# EAGLE library part MC68681 (library 68komputer)
MC68681 Dual UART Datasheet <https://www.nxp.com/docs/en/data-sheet/SCC68681.pdf>
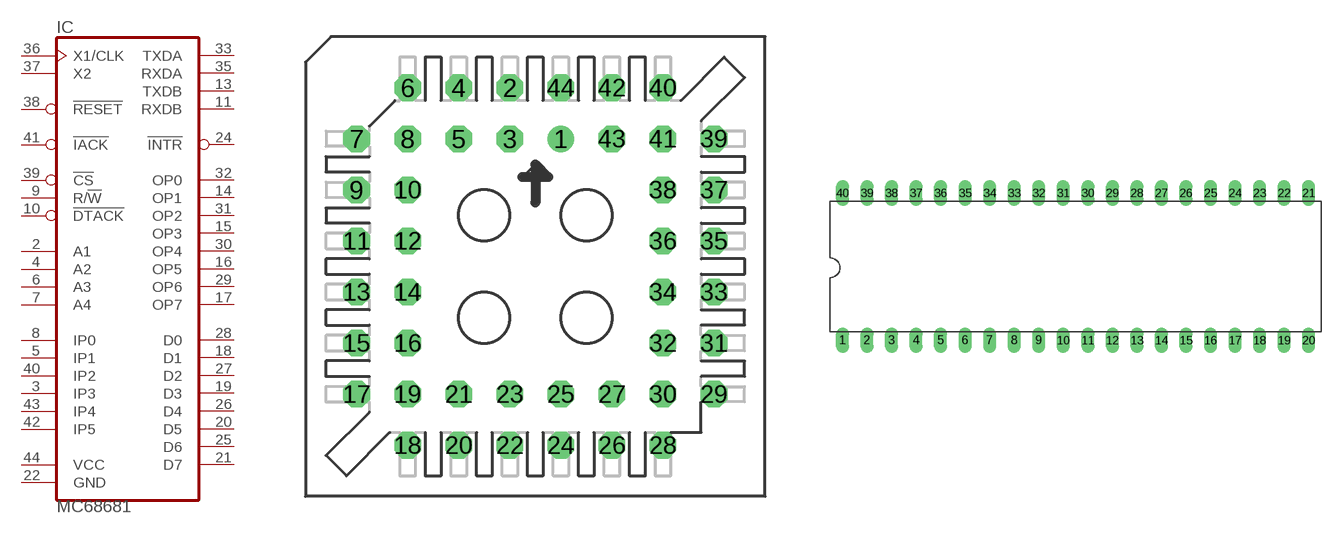
[diagram p14: symbol with the pads of PLCC-S44; footprints PLCC-S44, DIL40]

Designator prefix IC

## MC68681PLCC44-SOCKET  [PLCC-S44]
2  A1  in
3  IP3  in
4  A2  in
5  IP1  in
6  A3  in
7  A4  in
8  IP0  in
9  R/!W  in
10  !DTACK  out
11  RXDB  out
13  TXDB
14  OP1  out
15  OP3  out
16  OP5  out
17  OP7  out
18  D1
19  D3
20  D5
21  D7
22  GND  pwr
24  !INTR  out
25  D6
26  D4
27  D2
28  D0
29  OP6  out
30  OP4  out
31  OP2  out
32  OP0  out
33  TXDA  out
35  RXDA  in
36  X1/CLK  in
37  X2  out
38  !RESET  in
39  !CS  in
40  IP2  in
41  !IACK  in
42  IP5  in
43  IP4  in
44  VCC  pwr

## MC68681DIP40  [DIL40]
1  A1  in
2  IP3  in
3  A2  in
4  IP1  in
5  A3  in
6  A4  in
7  IP0  in
8  R/!W  in
9  !DTACK  out
10  RXDB  out
11  TXDB
12  OP1  out
13  OP3  out
14  OP5  out
15  OP7  out
16  D1
17  D3
18  D5
19  D7
20  GND  pwr
21  !INTR  out
22  D6
23  D4
24  D2
25  D0
26  OP6  out
27  OP4  out
28  OP2  out
29  OP0  out
30  TXDA  out
31  RXDA  in
32  X1/CLK  in
33  X2  out
34  !RESET  in
35  !CS  in
36  IP2  in
37  !IACK  in
38  IP5  in
39  IP4  in
40  VCC  pwr

## Footprint PLCC-S44 (pad centres in mm)
Plastic Leaded Chip Carrier Socked
drill 0.813: 1 1.27,6.35
drill 0.813 octagon: 2 -1.27,8.89; 3 -1.27,6.35; 4 -3.81,8.89; 5 -3.81,6.35; 6 -6.35,8.89; 7 -8.89,6.35; 8 -6.35,6.35; 9 -8.89,3.81; 10 -6.35,3.81; 11 -8.89,1.27; 12 -6.35,1.27; 13 -8.89,-1.27; 14 -6.35,-1.27; 15 -8.89,-3.81; 16 -6.35,-3.81; 17 -8.89,-6.35; 18 -6.35,-8.89; 19 -6.35,-6.35; 20 -3.81,-8.89; 21 -3.81,-6.35; 22 -1.27,-8.89; 23 -1.27,-6.35; 24 1.27,-8.89; 25 1.27,-6.35; 26 3.81,-8.89; 27 3.81,-6.35; 28 6.35,-8.89; 29 8.89,-6.35; 30 6.35,-6.35; 31 8.89,-3.81; 32 6.35,-3.81; 33 8.89,-1.27; 34 6.35,-1.27; 35 8.89,1.27; 36 6.35,1.27; 37 8.89,3.81; 38 6.35,3.81; 39 8.89,6.35; 40 6.35,8.89; 41 6.35,6.35; 42 3.81,8.89; 43 3.81,6.35; 44 1.27,8.89

## Footprint DIL40 (pad centres in mm)
Dual In Line Package
drill 0.813 long: 1 -24.13,-7.62; 2 -21.59,-7.62; 3 -19.05,-7.62; 4 -16.51,-7.62; 5 -13.97,-7.62; 6 -11.43,-7.62; 7 -8.89,-7.62; 8 -6.35,-7.62; 9 -3.81,-7.62; 10 -1.27,-7.62; 11 1.27,-7.62; 12 3.81,-7.62; 13 6.35,-7.62; 14 8.89,-7.62; 15 11.43,-7.62; 16 13.97,-7.62; 17 16.51,-7.62; 18 19.05,-7.62; 19 21.59,-7.62; 20 24.13,-7.62; 21 24.13,7.62; 22 21.59,7.62; 23 19.05,7.62; 24 16.51,7.62; 25 13.97,7.62; 26 11.43,7.62; 27 8.89,7.62; 28 6.35,7.62; 29 3.81,7.62; 30 1.27,7.62; 31 -1.27,7.62; 32 -3.81,7.62; 33 -6.35,7.62; 34 -8.89,7.62; 35 -11.43,7.62; 36 -13.97,7.62; 37 -16.51,7.62; 38 -19.05,7.62; 39 -21.59,7.62; 40 -24.13,7.62